# Altium integrated library Texas Instruments Power Management PWM Controller.IntLib: 1227 symbols (part 1 of 49)
Pins are listed as number, name and electrical type; pins without a type are passive.

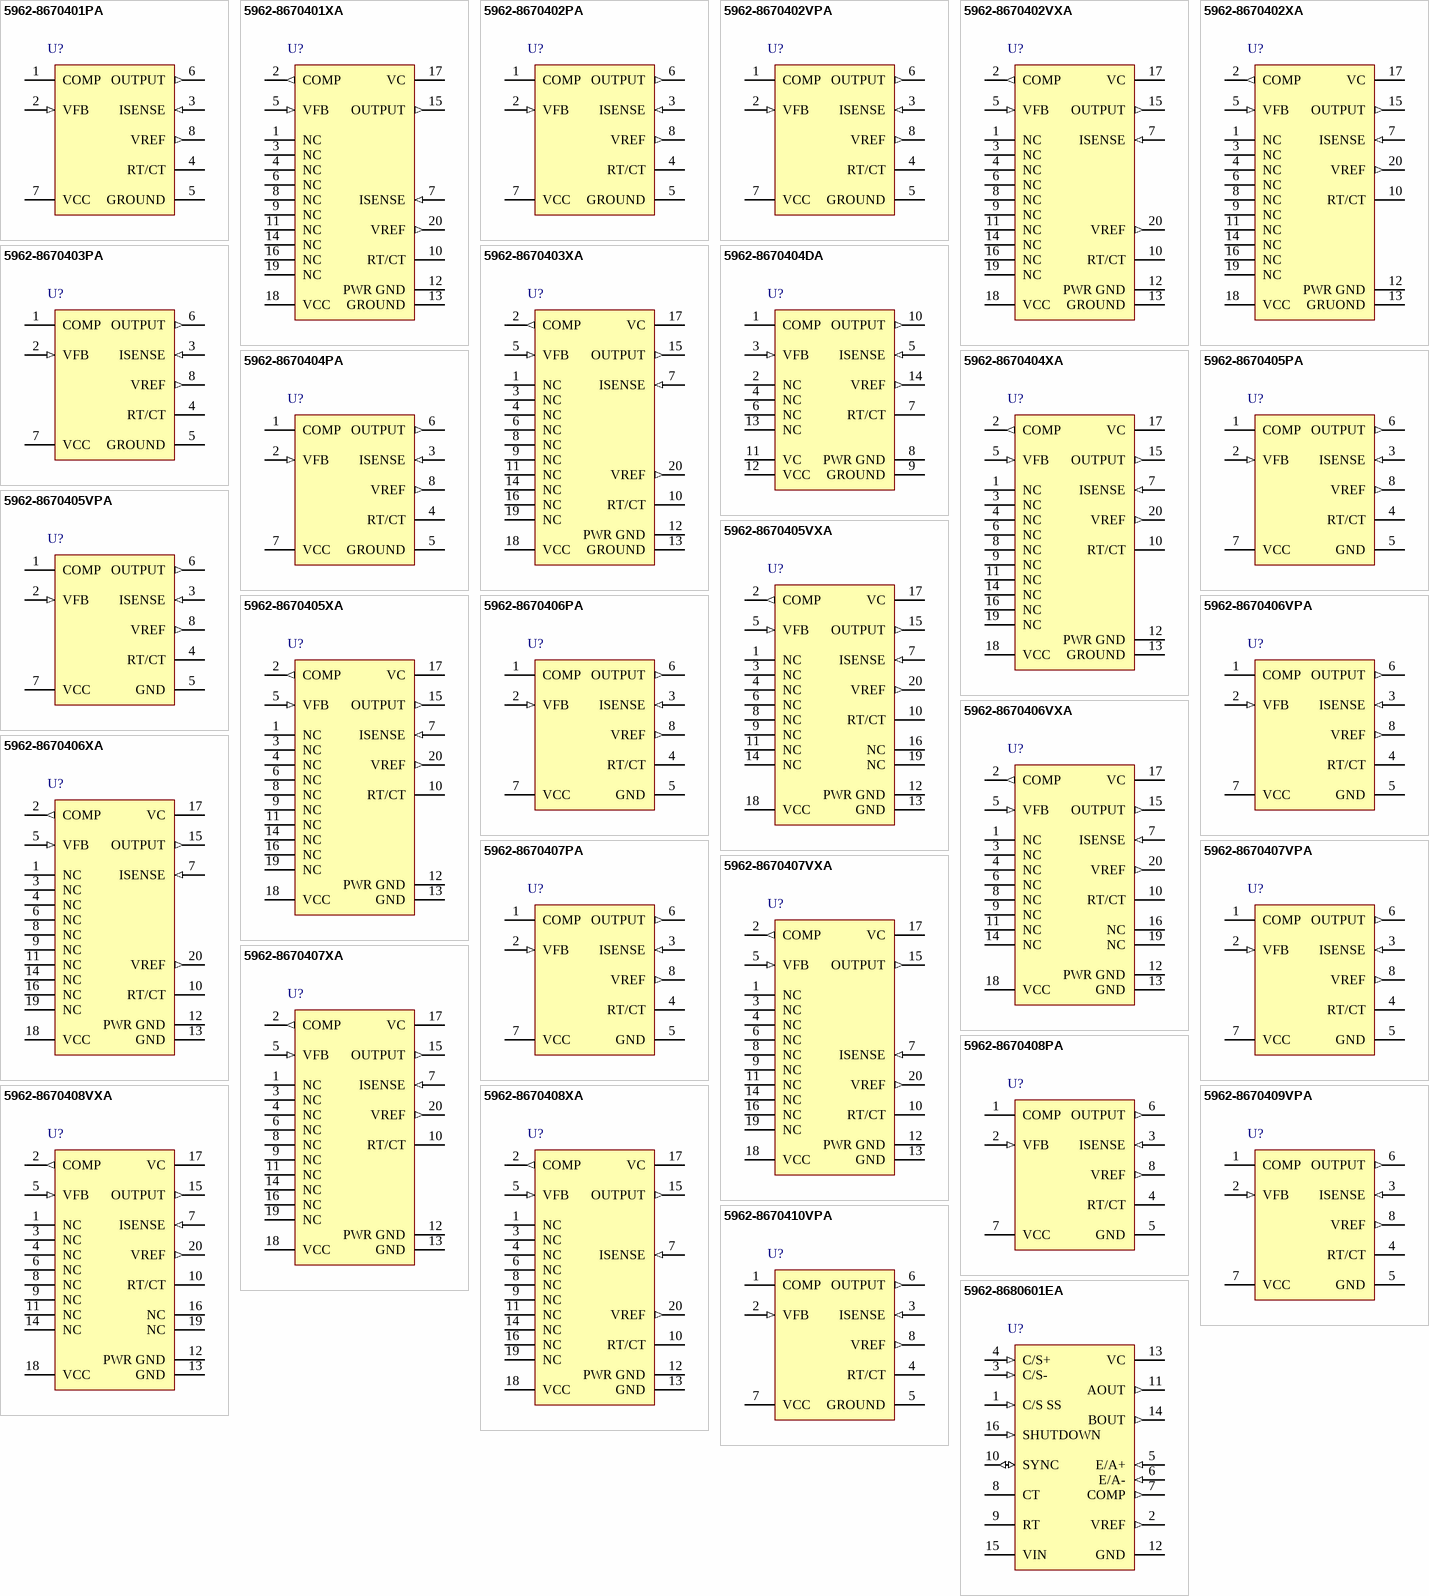
[diagram p0: symbols 5962-8670401PA to 5962-8680601EA]

## 5962-8670401PA
designator U?
Current Mode PWM Controller, 100 % Duty Cycle, -55 to +125 degC, 8-pin CDIP (JG); PartNumber: 5962-8670401PA; Manufacturer: Texas Instruments; Duty Cycle(Max)(%): 100; Eco-Plan: TBD; Frequency(Max)(kHz): 450; Rating: Military; Regulated Outputs(#): 1; Topology: Boost, Flyback, Forward; UVLO Thresholds On/Off(V): 16/10; DatasheetVersion: SLUS223C; PackageVersion: revC, Aug-1996; PackageReference: JG8; PackageDescription: 8-Pin Ceramic Dual-In-Line Package, Row Spacing 7.62 mm, Pitch 2.54 mm; Control Method: Current; SubFamily: PWM Controller; Mounting Technology: Through Hole; ComponentLink1Description: Datasheet; ComponentLink1URL: http://www.ti.com/general/docs/lit/getliterature.tsp?genericPartNumber=UC1842&fileType=pdf
footprint JG8 (DIP, 8-Leads, Row Spacing 7.62mm, Pitch 2.54mm, Body 9.6x6.7mm)
pins: 1 COMP, 2 VFB (in), 3 ISENSE (in), 4 RT/CT, 5 GROUND (power), 6 OUTPUT (out), 7 VCC (power), 8 VREF (out)

## 5962-8670401XA
designator U?
Current Mode PWM Controller, 100 % Duty Cycle, -55 to +125 degC, 20-pin LCCC (FK); PartNumber: 5962-8670401XA; Manufacturer: Texas Instruments; Duty Cycle(Max)(%): 100; Eco-Plan: TBD; Frequency(Max)(kHz): 450; Rating: Military; Regulated Outputs(#): 1; Topology: Boost, Flyback, Forward; UVLO Thresholds On/Off(V): 16/10; DatasheetVersion: SLUS223C; PackageVersion: revD, Jan-2011; PackageReference: FK20; PackageDescription: 20-Pin Leadless Ceramic Chip Carrier, 1.27 mm Pitch; Control Method: Current; SubFamily: PWM Controller; Mounting Technology: Surface Mount; Code_JEDEC: MS-004; ComponentLink1Description: Datasheet; ComponentLink1URL: http://www.ti.com/general/docs/lit/getliterature.tsp?genericPartNumber=UC1842&fileType=pdf
footprint FK20_N (Leadless Chip Carrier, 20-Leads, Body 8.9x8.9mm, Pitch 1.27mm, IPC Medium Density)
footprint FK20_L (Leadless Chip Carrier, 20-Leads, Body 8.9x8.9mm, Pitch 1.27mm, IPC High Density)
footprint FK20_M (Leadless Chip Carrier, 20-Leads, Body 8.9x8.9mm, Pitch 1.27mm, IPC Low Density)
pins: 1 NC, 2 COMP (out), 3 NC, 4 NC, 5 VFB (in), 6 NC, 7 ISENSE (in), 8 NC, 9 NC, 10 RT/CT, 11 NC, 12 PWR GND (power), 13 GROUND (power), 14 NC, 15 OUTPUT (out), 16 NC, 17 VC (power), 18 VCC (power), 19 NC, 20 VREF (out)

## 5962-8670402PA
designator U?
PWM Controller with Current Control, 100 % Duty Cycle, -55 to +125 degC, 8-pin CDIP (JG); PartNumber: 5962-8670402PA; Manufacturer: Texas Instruments; Duty Cycle(Max)(%): 100; Eco-Plan: TBD; Frequency(Max)(kHz): 450; Rating: Military; Regulated Outputs(#): 1; Topology: Boost, Flyback, Forward; UVLO Thresholds On/Off(V): 8.4/7.6; DatasheetVersion: SLUS223C; PackageVersion: revC, Aug-1996; PackageReference: JG8; PackageDescription: 8-Pin Ceramic Dual-In-Line Package, Row Spacing 7.62 mm, Pitch 2.54 mm; Control Method: Current; SubFamily: PWM Controller; Mounting Technology: Through Hole; ComponentLink1Description: Datasheet; ComponentLink1URL: http://www.ti.com/general/docs/lit/getliterature.tsp?genericPartNumber=UC1843&fileType=pdf
footprint JG8 (DIP, 8-Leads, Row Spacing 7.62mm, Pitch 2.54mm, Body 9.6x6.7mm)
pins: 1 COMP, 2 VFB (in), 3 ISENSE (in), 4 RT/CT, 5 GROUND (power), 6 OUTPUT (out), 7 VCC (power), 8 VREF (out)

## 5962-8670402VPA
designator U?
QML Class V PWM Controller with Current Mode Control, 100 % Duty Cycle, -55 to +125 degC, 8-pin CDIP (JG); PartNumber: 5962-8670402VPA; Manufacturer: Texas Instruments; Duty Cycle(Max)(%): 100; Eco-Plan: TBD; Frequency(Max)(kHz): 450; Rating: Space; Regulated Outputs(#): 1; Topology: Boost, Flyback, Forward; UVLO Thresholds On/Off(V): 8.4/7.6; DatasheetVersion: SLUS981; PackageVersion: revC, Aug-1996; PackageReference: JG8; PackageDescription: 8-Pin Ceramic Dual-In-Line Package, Row Spacing 7.62 mm, Pitch 2.54 mm; SubFamily: PWM Controller; Mounting Technology: Through Hole; ComponentLink1Description: Datasheet; ComponentLink1URL: http://www.ti.com/general/docs/lit/getliterature.tsp?genericPartNumber=UC1843-SP&fileType=pdf
footprint JG8 (DIP, 8-Leads, Row Spacing 7.62mm, Pitch 2.54mm, Body 9.6x6.7mm)
pins: 1 COMP, 2 VFB (in), 3 ISENSE (in), 4 RT/CT, 5 GROUND (power), 6 OUTPUT (out), 7 VCC (power), 8 VREF (out)

## 5962-8670402VXA
designator U?
QML Class V Current Mode PWM Controller, 100 % Duty Cycle, -55 to +125 degC, 20-pin LCCC (FK); PartNumber: 5962-8670402VXA; Manufacturer: Texas Instruments; Duty Cycle(Max)(%): 100; Eco-Plan: TBD; Frequency(Max)(kHz): 450; Rating: Space; Regulated Outputs(#): 1; Topology: Boost, Flyback, Forward; UVLO Thresholds On/Off(V): 8.4/7.6; DatasheetVersion: SLUS981; PackageVersion: revD, Jan-2011; PackageReference: FK20; PackageDescription: 20-Pin Leadless Ceramic Chip Carrier, 1.27 mm Pitch; SubFamily: PWM Controller; Mounting Technology: Surface Mount; Code_JEDEC: MS-004; ComponentLink1Description: Datasheet; ComponentLink1URL: http://www.ti.com/general/docs/lit/getliterature.tsp?genericPartNumber=UC1843-SP&fileType=pdf
footprint FK20_N (Leadless Chip Carrier, 20-Leads, Body 8.9x8.9mm, Pitch 1.27mm, IPC Medium Density)
footprint FK20_L (Leadless Chip Carrier, 20-Leads, Body 8.9x8.9mm, Pitch 1.27mm, IPC High Density)
footprint FK20_M (Leadless Chip Carrier, 20-Leads, Body 8.9x8.9mm, Pitch 1.27mm, IPC Low Density)
pins: 1 NC, 2 COMP (out), 3 NC, 4 NC, 5 VFB (in), 6 NC, 7 ISENSE (in), 8 NC, 9 NC, 10 RT/CT, 11 NC, 12 PWR GND (power), 13 GROUND (power), 14 NC, 15 OUTPUT (out), 16 NC, 17 VC (power), 18 VCC (power), 19 NC, 20 VREF (out)

## 5962-8670402XA
designator U?
PWM Controller with Current Control, 100 % Duty Cycle, -55 to +125 degC, 20-pin LCCC (FK); PartNumber: 5962-8670402XA; Manufacturer: Texas Instruments; Duty Cycle(Max)(%): 100; Eco-Plan: TBD; Frequency(Max)(kHz): 450; Rating: Military; Regulated Outputs(#): 1; Topology: Boost, Flyback, Forward; UVLO Thresholds On/Off(V): 8.4/7.6; DatasheetVersion: SLUS223C; PackageVersion: revD, Jan-2011; PackageReference: FK20; PackageDescription: 20-Pin Leadless Ceramic Chip Carrier, 1.27 mm Pitch; Control Method: Current; SubFamily: PWM Controller; Mounting Technology: Surface Mount; Code_JEDEC: MS-004; ComponentLink1Description: Datasheet; ComponentLink1URL: http://www.ti.com/general/docs/lit/getliterature.tsp?genericPartNumber=UC1843&fileType=pdf
footprint FK20_N (Leadless Chip Carrier, 20-Leads, Body 8.9x8.9mm, Pitch 1.27mm, IPC Medium Density)
footprint FK20_L (Leadless Chip Carrier, 20-Leads, Body 8.9x8.9mm, Pitch 1.27mm, IPC High Density)
footprint FK20_M (Leadless Chip Carrier, 20-Leads, Body 8.9x8.9mm, Pitch 1.27mm, IPC Low Density)
pins: 1 NC, 2 COMP (out), 3 NC, 4 NC, 5 VFB (in), 6 NC, 7 ISENSE (in), 8 NC, 9 NC, 10 RT/CT, 11 NC, 12 PWR GND (power), 13 GRUOND (power), 14 NC, 15 OUTPUT (out), 16 NC, 17 VC (power), 18 VCC (power), 19 NC, 20 VREF (out)

## 5962-8670403PA
designator U?
PWM Controller with Current Control, 50 % Duty Cycle, -55 to +125 degC, 8-pin CDIP (JG); PartNumber: 5962-8670403PA; Manufacturer: Texas Instruments; Duty Cycle(Max)(%): 50; Eco-Plan: TBD; Frequency(Max)(kHz): 450; Rating: Military; Regulated Outputs(#): 1; Topology: Boost, Flyback, Forward; UVLO Thresholds On/Off(V): 16/10; DatasheetVersion: SLUS223C; PackageVersion: revC, Aug-1996; PackageReference: JG8; PackageDescription: 8-Pin Ceramic Dual-In-Line Package, Row Spacing 7.62 mm, Pitch 2.54 mm; Control Method: Current; SubFamily: PWM Controller; Mounting Technology: Through Hole; ComponentLink1Description: Datasheet; ComponentLink1URL: http://www.ti.com/general/docs/lit/getliterature.tsp?genericPartNumber=UC1844&fileType=pdf
footprint JG8 (DIP, 8-Leads, Row Spacing 7.62mm, Pitch 2.54mm, Body 9.6x6.7mm)
pins: 1 COMP, 2 VFB (in), 3 ISENSE (in), 4 RT/CT, 5 GROUND (power), 6 OUTPUT (out), 7 VCC (power), 8 VREF (out)

## 5962-8670403XA
designator U?
PWM Controller with Current Control, 50 % Duty Cycle, -55 to +125 degC,20-pin LCCC (FK); PartNumber: 5962-8670403XA; Manufacturer: Texas Instruments; Duty Cycle(Max)(%): 50; Eco-Plan: TBD; Frequency(Max)(kHz): 450; Rating: Military; Regulated Outputs(#): 1; Topology: Boost, Flyback, Forward; UVLO Thresholds On/Off(V): 16/10; DatasheetVersion: SLUS223C; PackageVersion: revD, Jan-2011; PackageReference: FK20; PackageDescription: 20-Pin Leadless Ceramic Chip Carrier, 1.27 mm Pitch; Control Method: Current; SubFamily: PWM Controller; Mounting Technology: Surface Mount; Code_JEDEC: MS-004; ComponentLink1Description: Datasheet; ComponentLink1URL: http://www.ti.com/general/docs/lit/getliterature.tsp?genericPartNumber=UC1844&fileType=pdf
footprint FK20_N (Leadless Chip Carrier, 20-Leads, Body 8.9x8.9mm, Pitch 1.27mm, IPC Medium Density)
footprint FK20_L (Leadless Chip Carrier, 20-Leads, Body 8.9x8.9mm, Pitch 1.27mm, IPC High Density)
footprint FK20_M (Leadless Chip Carrier, 20-Leads, Body 8.9x8.9mm, Pitch 1.27mm, IPC Low Density)
pins: 1 NC, 2 COMP (out), 3 NC, 4 NC, 5 VFB (in), 6 NC, 7 ISENSE (in), 8 NC, 9 NC, 10 RT/CT, 11 NC, 12 PWR GND (power), 13 GROUND (power), 14 NC, 15 OUTPUT (out), 16 NC, 17 VC (power), 18 VCC (power), 19 NC, 20 VREF (out)

## 5962-8670404DA
designator U?
PWM Controller with Current Control, 50 % Duty Cycle, 14-pin CFP (W); PartNumber: 5962-8670404DA; Manufacturer: Texas Instruments; Duty Cycle(Max)(%): 50; Eco-Plan: TBD; Frequency(Max)(kHz): 450; Rating: Military; Regulated Outputs(#): 1; Topology: Boost, Flyback, Forward; UVLO Thresholds On/Off(V): 8.4/7.6; DatasheetVersion: SLUS223C; PackageVersion: revD, Jul-2003; PackageReference: W14; PackageDescription: 14-Lead Ceramic Dual Flatpack, Body 9.9 x 6.6 mm (LxW max), Pitch 1.27 mm; Control Method: Current; SubFamily: PWM Controller; Mounting Technology: Surface Mount; Code_JEDEC: MO-092AB; ComponentLink1Description: Datasheet; ComponentLink1URL: http://www.ti.com/general/docs/lit/getliterature.tsp?genericPartNumber=UC1845&fileType=pdf
footprint W14 (DFP, 14 Leads, Body 9.2x6.3mm, Pitch 1.27mm, Gullwing Leadform)
pins: 1 COMP, 2 NC, 3 VFB (in), 4 NC, 5 ISENSE (in), 6 NC, 7 RT/CT, 8 PWR GND (power), 9 GROUND (power), 10 OUTPUT (out), 11 VC (power), 12 VCC (power), 13 NC, 14 VREF (out)

## 5962-8670404PA
designator U?
PWM Controller with Current Control, 50 % Duty Cycle, -55 to +125 degC, 8-pin CDIP (JG); PartNumber: 5962-8670404PA; Manufacturer: Texas Instruments; Duty Cycle(Max)(%): 50; Eco-Plan: TBD; Frequency(Max)(kHz): 450; Rating: Military; Regulated Outputs(#): 1; Topology: Boost, Flyback, Forward; UVLO Thresholds On/Off(V): 8.4/7.6; DatasheetVersion: SLUS223C; PackageVersion: revC, Aug-1996; PackageReference: JG8; PackageDescription: 8-Pin Ceramic Dual-In-Line Package, Row Spacing 7.62 mm, Pitch 2.54 mm; Control Method: Current; SubFamily: PWM Controller; Mounting Technology: Through Hole; ComponentLink1Description: Datasheet; ComponentLink1URL: http://www.ti.com/general/docs/lit/getliterature.tsp?genericPartNumber=UC1845&fileType=pdf
footprint JG8 (DIP, 8-Leads, Row Spacing 7.62mm, Pitch 2.54mm, Body 9.6x6.7mm)
pins: 1 COMP, 2 VFB (in), 3 ISENSE (in), 4 RT/CT, 5 GROUND (power), 6 OUTPUT (out), 7 VCC (power), 8 VREF (out)

## 5962-8670404XA
designator U?
PWM Controller with Current Control, 50 % Duty Cycle, -55 to +125 degC, 20-pin LCCC (FK); PartNumber: 5962-8670404XA; Manufacturer: Texas Instruments; Duty Cycle(Max)(%): 50; Eco-Plan: TBD; Frequency(Max)(kHz): 450; Rating: Military; Regulated Outputs(#): 1; Topology: Boost, Flyback, Forward; UVLO Thresholds On/Off(V): 8.4/7.6; DatasheetVersion: SLUS223C; PackageVersion: revD, Jan-2011; PackageReference: FK20; PackageDescription: 20-Pin Leadless Ceramic Chip Carrier, 1.27 mm Pitch; Control Method: Current; SubFamily: PWM Controller; Mounting Technology: Surface Mount; Code_JEDEC: MS-004; ComponentLink1Description: Datasheet; ComponentLink1URL: http://www.ti.com/general/docs/lit/getliterature.tsp?genericPartNumber=UC1845&fileType=pdf
footprint FK20_N (Leadless Chip Carrier, 20-Leads, Body 8.9x8.9mm, Pitch 1.27mm, IPC Medium Density)
footprint FK20_L (Leadless Chip Carrier, 20-Leads, Body 8.9x8.9mm, Pitch 1.27mm, IPC High Density)
footprint FK20_M (Leadless Chip Carrier, 20-Leads, Body 8.9x8.9mm, Pitch 1.27mm, IPC Low Density)
pins: 1 NC, 2 COMP (out), 3 NC, 4 NC, 5 VFB (in), 6 NC, 7 ISENSE (in), 8 NC, 9 NC, 10 RT/CT, 11 NC, 12 PWR GND (power), 13 GROUND (power), 14 NC, 15 OUTPUT (out), 16 NC, 17 VC (power), 18 VCC (power), 19 NC, 20 VREF (out)

## 5962-8670405PA
designator U?
PWM Controller with Current Control, 100 % Duty Cycle, -55 to +125 degC, 8-pin CDIP (JG); PartNumber: 5962-8670405PA; Manufacturer: Texas Instruments; Duty Cycle(Max)(%): 100; Eco-Plan: TBD; Frequency(Max)(kHz): 450; Rating: Military; Regulated Outputs(#): 1; Topology: Boost, Flyback, Forward; UVLO Thresholds On/Off(V): 16/10; DatasheetVersion: SLUS224C; PackageVersion: revC, Aug-1996; PackageReference: JG8; PackageDescription: 8-Pin Ceramic Dual-In-Line Package, Row Spacing 7.62 mm, Pitch 2.54 mm; Control Method: Current; SubFamily: PWM Controller; Mounting Technology: Through Hole; ComponentLink1Description: Datasheet; ComponentLink1URL: http://www.ti.com/general/docs/lit/getliterature.tsp?genericPartNumber=UC1842A&fileType=pdf
footprint JG8 (DIP, 8-Leads, Row Spacing 7.62mm, Pitch 2.54mm, Body 9.6x6.7mm)
pins: 1 COMP, 2 VFB (in), 3 ISENSE (in), 4 RT/CT, 5 GND (power), 6 OUTPUT (out), 7 VCC (power), 8 VREF (out)

## 5962-8670405VPA
designator U?
QML Class V, Current Mode PWM Controller, -55 to +125 degC, 8-pin CDIP (JG); PartNumber: 5962-8670405VPA; Manufacturer: Texas Instruments; Eco-Plan: TBD; Rating: Space; DatasheetVersion: SLUS872A; PackageVersion: revC, Aug-1996; PackageReference: JG8; PackageDescription: 8-Pin Ceramic Dual-In-Line Package, Row Spacing 7.62 mm, Pitch 2.54 mm; SubFamily: PWM Controller; Mounting Technology: Through Hole; ComponentLink1Description: Datasheet; ComponentLink1URL: http://www.ti.com/general/docs/lit/getliterature.tsp?genericPartNumber=UC1842A-SP&fileType=pdf
footprint JG8 (DIP, 8-Leads, Row Spacing 7.62mm, Pitch 2.54mm, Body 9.6x6.7mm)
pins: 1 COMP, 2 VFB (in), 3 ISENSE (in), 4 RT/CT, 5 GND (power), 6 OUTPUT (out), 7 VCC (power), 8 VREF (out)

## 5962-8670405VXA
designator U?
QML Class V, Current Mode PWM Controller, -55 to +125 degC,20-pin LCCC (FK); PartNumber: 5962-8670405VXA; Manufacturer: Texas Instruments; Eco-Plan: TBD; Rating: Space; DatasheetVersion: SLUS872A; PackageVersion: revD, Jan-2011; PackageReference: FK20; PackageDescription: 20-Pin Leadless Ceramic Chip Carrier, 1.27 mm Pitch; Control Method: Current; SubFamily: PWM Controller; Mounting Technology: Surface Mount; Code_JEDEC: MS-004; ComponentLink1Description: Datasheet; ComponentLink1URL: http://www.ti.com/general/docs/lit/getliterature.tsp?genericPartNumber=UC1842A-SP&fileType=pdf
footprint FK20_N (Leadless Chip Carrier, 20-Leads, Body 8.9x8.9mm, Pitch 1.27mm, IPC Medium Density)
footprint FK20_L (Leadless Chip Carrier, 20-Leads, Body 8.9x8.9mm, Pitch 1.27mm, IPC High Density)
footprint FK20_M (Leadless Chip Carrier, 20-Leads, Body 8.9x8.9mm, Pitch 1.27mm, IPC Low Density)
pins: 1 NC, 2 COMP (out), 3 NC, 4 NC, 5 VFB (in), 6 NC, 7 ISENSE (in), 8 NC, 9 NC, 10 RT/CT, 11 NC, 12 PWR GND (power), 13 GND (power), 14 NC, 15 OUTPUT (out), 16 NC, 17 VC (power), 18 VCC (power), 19 NC, 20 VREF (out)

## 5962-8670405XA
designator U?
PWM Controller with Current Control, 100 % Duty Cycle, -55 to +125 degC, 20-pin LCCC (FK); PartNumber: 5962-8670405XA; Manufacturer: Texas Instruments; Duty Cycle(Max)(%): 100; Eco-Plan: TBD; Frequency(Max)(kHz): 450; Rating: Military; Regulated Outputs(#): 1; Topology: Boost, Flyback, Forward; UVLO Thresholds On/Off(V): 16/10; DatasheetVersion: SLUS224C; PackageVersion: revD, Jan-2011; PackageReference: FK20; PackageDescription: 20-Pin Leadless Ceramic Chip Carrier, 1.27 mm Pitch; Control Method: Current; SubFamily: PWM Controller; Mounting Technology: Surface Mount; Code_JEDEC: MS-004; ComponentLink1Description: Datasheet; ComponentLink1URL: http://www.ti.com/general/docs/lit/getliterature.tsp?genericPartNumber=UC1842A&fileType=pdf
footprint FK20_N (Leadless Chip Carrier, 20-Leads, Body 8.9x8.9mm, Pitch 1.27mm, IPC Medium Density)
footprint FK20_L (Leadless Chip Carrier, 20-Leads, Body 8.9x8.9mm, Pitch 1.27mm, IPC High Density)
footprint FK20_M (Leadless Chip Carrier, 20-Leads, Body 8.9x8.9mm, Pitch 1.27mm, IPC Low Density)
pins: 1 NC, 2 COMP (out), 3 NC, 4 NC, 5 VFB (in), 6 NC, 7 ISENSE (in), 8 NC, 9 NC, 10 RT/CT, 11 NC, 12 PWR GND (power), 13 GND (power), 14 NC, 15 OUTPUT (out), 16 NC, 17 VC (power), 18 VCC (power), 19 NC, 20 VREF (out)

## 5962-8670406PA
designator U?
PWM Controller with Current Control, 100 % Duty Cycle, -55 to +125 degC, 8-pin CDIP (JG); PartNumber: 5962-8670406PA; Manufacturer: Texas Instruments; Duty Cycle(Max)(%): 100; Eco-Plan: TBD; Frequency(Max)(kHz): 450; Rating: Military; Regulated Outputs(#): 1; Topology: Boost, Flyback, Forward; UVLO Thresholds On/Off(V): 8.4/7.6; DatasheetVersion: SLUS224C; PackageVersion: revC, Aug-1996; PackageReference: JG8; PackageDescription: 8-Pin Ceramic Dual-In-Line Package, Row Spacing 7.62 mm, Pitch 2.54 mm; Control Method: Current; SubFamily: PWM Controller; Mounting Technology: Through Hole; ComponentLink1Description: Datasheet; ComponentLink1URL: http://www.ti.com/general/docs/lit/getliterature.tsp?genericPartNumber=UC1843A&fileType=pdf
footprint JG8 (DIP, 8-Leads, Row Spacing 7.62mm, Pitch 2.54mm, Body 9.6x6.7mm)
pins: 1 COMP, 2 VFB (in), 3 ISENSE (in), 4 RT/CT, 5 GND (power), 6 OUTPUT (out), 7 VCC (power), 8 VREF (out)

## 5962-8670406VPA
designator U?
QML Class V, PWM Controller with Current Control, 100 % Duty Cycle, -55 to +125 degC, 8-pin CDIP (JG); PartNumber: 5962-8670406VPA; Manufacturer: Texas Instruments; Duty Cycle(Max)(%): 100; Eco-Plan: TBD; Frequency(Max)(kHz): 450; Rating: Space; Regulated Outputs(#): 1; Topology: Boost, Flyback, Forward; UVLO Thresholds On/Off(V): 8.4/7.6; DatasheetVersion: SLUS872A; PackageVersion: revC, Aug-1996; PackageReference: JG8; PackageDescription: 8-Pin Ceramic Dual-In-Line Package, Row Spacing 7.62 mm, Pitch 2.54 mm; Control Method: Current; SubFamily: PWM Controller; Mounting Technology: Through Hole; ComponentLink1Description: Datasheet; ComponentLink1URL: http://www.ti.com/general/docs/lit/getliterature.tsp?genericPartNumber=UC1843A-SP&fileType=pdf
footprint JG8 (DIP, 8-Leads, Row Spacing 7.62mm, Pitch 2.54mm, Body 9.6x6.7mm)
pins: 1 COMP, 2 VFB (in), 3 ISENSE (in), 4 RT/CT, 5 GND (power), 6 OUTPUT (out), 7 VCC (power), 8 VREF (out)

## 5962-8670406VXA
designator U?
QML Class V, PWM Controller with Current Control, 100 % Duty Cycle, -55 to +125 degC, 20-pin LCCC (FK); PartNumber: 5962-8670406VXA; Manufacturer: Texas Instruments; Duty Cycle(Max)(%): 100; Eco-Plan: TBD; Frequency(Max)(kHz): 450; Rating: Space; Regulated Outputs(#): 1; Topology: Boost, Flyback, Forward; UVLO Thresholds On/Off(V): 8.4/7.6; DatasheetVersion: SLUS872A; PackageVersion: revD, Jan-2011; PackageReference: FK20; PackageDescription: 20-Pin Leadless Ceramic Chip Carrier, 1.27 mm Pitch; Control Method: Current; SubFamily: PWM Controller; Mounting Technology: Surface Mount; Code_JEDEC: MS-004; ComponentLink1Description: Datasheet; ComponentLink1URL: http://www.ti.com/general/docs/lit/getliterature.tsp?genericPartNumber=UC1843A-SP&fileType=pdf
footprint FK20_N (Leadless Chip Carrier, 20-Leads, Body 8.9x8.9mm, Pitch 1.27mm, IPC Medium Density)
footprint FK20_L (Leadless Chip Carrier, 20-Leads, Body 8.9x8.9mm, Pitch 1.27mm, IPC High Density)
footprint FK20_M (Leadless Chip Carrier, 20-Leads, Body 8.9x8.9mm, Pitch 1.27mm, IPC Low Density)
pins: 1 NC, 2 COMP (out), 3 NC, 4 NC, 5 VFB (in), 6 NC, 7 ISENSE (in), 8 NC, 9 NC, 10 RT/CT, 11 NC, 12 PWR GND (power), 13 GND (power), 14 NC, 15 OUTPUT (out), 16 NC, 17 VC (power), 18 VCC (power), 19 NC, 20 VREF (out)

## 5962-8670406XA
designator U?
PWM Controller with Current Control, 100 % Duty Cycle, -55 to +125 degC, 20-pin LCCC (FK); PartNumber: 5962-8670406XA; Manufacturer: Texas Instruments; Duty Cycle(Max)(%): 100; Eco-Plan: TBD; Frequency(Max)(kHz): 450; Rating: Military; Regulated Outputs(#): 1; Topology: Boost, Flyback, Forward; UVLO Thresholds On/Off(V): 8.4/7.6; DatasheetVersion: SLUS224C; PackageVersion: revD, Jan-2011; PackageReference: FK20; PackageDescription: 20-Pin Leadless Ceramic Chip Carrier, 1.27 mm Pitch; Control Method: Current; SubFamily: PWM Controller; Mounting Technology: Surface Mount; Code_JEDEC: MS-004; ComponentLink1Description: Datasheet; ComponentLink1URL: http://www.ti.com/general/docs/lit/getliterature.tsp?genericPartNumber=UC1843A&fileType=pdf
footprint FK20_N (Leadless Chip Carrier, 20-Leads, Body 8.9x8.9mm, Pitch 1.27mm, IPC Medium Density)
footprint FK20_L (Leadless Chip Carrier, 20-Leads, Body 8.9x8.9mm, Pitch 1.27mm, IPC High Density)
footprint FK20_M (Leadless Chip Carrier, 20-Leads, Body 8.9x8.9mm, Pitch 1.27mm, IPC Low Density)
pins: 1 NC, 2 COMP (out), 3 NC, 4 NC, 5 VFB (in), 6 NC, 7 ISENSE (in), 8 NC, 9 NC, 10 RT/CT, 11 NC, 12 PWR GND (power), 13 GND (power), 14 NC, 15 OUTPUT (out), 16 NC, 17 VC (power), 18 VCC (power), 19 NC, 20 VREF (out)

## 5962-8670407PA
designator U?
PWM Controller with Current Control, 50 % Duty Cycle, -55 to +125 degC, 8-pin CDIP (JG); PartNumber: 5962-8670407PA; Manufacturer: Texas Instruments; Duty Cycle(Max)(%): 50; Eco-Plan: TBD; Frequency(Max)(kHz): 450; Rating: Military; Regulated Outputs(#): 1; Topology: Boost, Flyback, Forward; UVLO Thresholds On/Off(V): 16/10; DatasheetVersion: SLUS224C; PackageVersion: revC, Aug-1996; PackageReference: JG8; PackageDescription: 8-Pin Ceramic Dual-In-Line Package, Row Spacing 7.62 mm, Pitch 2.54 mm; Control Method: Current; SubFamily: PWM Controller; Mounting Technology: Through Hole; ComponentLink1Description: Datasheet; ComponentLink1URL: http://www.ti.com/general/docs/lit/getliterature.tsp?genericPartNumber=UC1844A&fileType=pdf
footprint JG8 (DIP, 8-Leads, Row Spacing 7.62mm, Pitch 2.54mm, Body 9.6x6.7mm)
pins: 1 COMP, 2 VFB (in), 3 ISENSE (in), 4 RT/CT, 5 GND (power), 6 OUTPUT (out), 7 VCC (power), 8 VREF (out)

## 5962-8670407VPA
designator U?
QML Class V, Current-Mode PWM Controller, -55 to +125 degC, 8-pin CDIP (JG); PartNumber: 5962-8670407VPA; Manufacturer: Texas Instruments; Eco-Plan: TBD; Rating: Space; DatasheetVersion: SLUS872A; PackageVersion: revC, Aug-1996; PackageReference: JG8; PackageDescription: 8-Pin Ceramic Dual-In-Line Package, Row Spacing 7.62 mm, Pitch 2.54 mm; Control Method: Current; SubFamily: PWM Controller; Mounting Technology: Through Hole; ComponentLink1Description: Datasheet; ComponentLink1URL: http://www.ti.com/general/docs/lit/getliterature.tsp?genericPartNumber=UC1844A-SP&fileType=pdf
footprint JG8 (DIP, 8-Leads, Row Spacing 7.62mm, Pitch 2.54mm, Body 9.6x6.7mm)
pins: 1 COMP, 2 VFB (in), 3 ISENSE (in), 4 RT/CT, 5 GND (power), 6 OUTPUT (out), 7 VCC (power), 8 VREF (out)

## 5962-8670407VXA
designator U?
QML Class V, Current-Mode PWM Controller, -55 to +125 degC, 20-pin LCCC (FK); PartNumber: 5962-8670407VXA; Manufacturer: Texas Instruments; Eco-Plan: TBD; Rating: Space; DatasheetVersion: SLUS872A; PackageVersion: revD, Jan-2011; PackageReference: FK20; PackageDescription: 20-Pin Leadless Ceramic Chip Carrier, 1.27 mm Pitch; Control Method: Current; SubFamily: PWM Controller; Mounting Technology: Surface Mount; Code_JEDEC: MS-004; ComponentLink1Description: Datasheet; ComponentLink1URL: http://www.ti.com/general/docs/lit/getliterature.tsp?genericPartNumber=UC1844A-SP&fileType=pdf
footprint FK20_N (Leadless Chip Carrier, 20-Leads, Body 8.9x8.9mm, Pitch 1.27mm, IPC Medium Density)
footprint FK20_L (Leadless Chip Carrier, 20-Leads, Body 8.9x8.9mm, Pitch 1.27mm, IPC High Density)
footprint FK20_M (Leadless Chip Carrier, 20-Leads, Body 8.9x8.9mm, Pitch 1.27mm, IPC Low Density)
pins: 1 NC, 2 COMP (out), 3 NC, 4 NC, 5 VFB (in), 6 NC, 7 ISENSE (in), 8 NC, 9 NC, 10 RT/CT, 11 NC, 12 PWR GND (power), 13 GND (power), 14 NC, 15 OUTPUT (out), 16 NC, 17 VC (power), 18 VCC (power), 19 NC, 20 VREF (out)

## 5962-8670407XA
designator U?
PWM Controller with Current Control, 50 % Duty Cycle, -55 to +125 degC, 20-pin LCCC (FK); PartNumber: 5962-8670407XA; Manufacturer: Texas Instruments; Duty Cycle(Max)(%): 50; Eco-Plan: TBD; Frequency(Max)(kHz): 450; Rating: Military; Regulated Outputs(#): 1; Topology: Boost, Flyback, Forward; UVLO Thresholds On/Off(V): 16/10; DatasheetVersion: SLUS224C; PackageVersion: revD, Jan-2011; PackageReference: FK20; PackageDescription: 20-Pin Leadless Ceramic Chip Carrier, 1.27 mm Pitch; Control Method: Current; SubFamily: PWM Controller; Mounting Technology: Surface Mount; Code_JEDEC: MS-004; ComponentLink1Description: Datasheet; ComponentLink1URL: http://www.ti.com/general/docs/lit/getliterature.tsp?genericPartNumber=UC1844A&fileType=pdf
footprint FK20_N (Leadless Chip Carrier, 20-Leads, Body 8.9x8.9mm, Pitch 1.27mm, IPC Medium Density)
footprint FK20_L (Leadless Chip Carrier, 20-Leads, Body 8.9x8.9mm, Pitch 1.27mm, IPC High Density)
footprint FK20_M (Leadless Chip Carrier, 20-Leads, Body 8.9x8.9mm, Pitch 1.27mm, IPC Low Density)
pins: 1 NC, 2 COMP (out), 3 NC, 4 NC, 5 VFB (in), 6 NC, 7 ISENSE (in), 8 NC, 9 NC, 10 RT/CT, 11 NC, 12 PWR GND (power), 13 GND (power), 14 NC, 15 OUTPUT (out), 16 NC, 17 VC (power), 18 VCC (power), 19 NC, 20 VREF (out)

## 5962-8670408PA
designator U?
PWM Controller with Current Control, 50 % Duty Cycle, -55 to +125 degC, 8-pin CDIP (JG); PartNumber: 5962-8670408PA; Manufacturer: Texas Instruments; Duty Cycle(Max)(%): 50; Eco-Plan: TBD; Frequency(Max)(kHz): 450; Rating: Military; Regulated Outputs(#): 1; Topology: Boost, Flyback, Forward; UVLO Thresholds On/Off(V): 8.4/7.6; PackageVersion: revC, Aug-1996; PackageReference: JG8; PackageDescription: 8-Pin Ceramic Dual-In-Line Package, Row Spacing 7.62 mm, Pitch 2.54 mm; Control Method: Current; SubFamily: PWM Controller; Mounting Technology: Through Hole; ComponentLink1Description: Datasheet; ComponentLink1URL: http://www.ti.com/general/docs/lit/getliterature.tsp?genericPartNumber=UC1845A&fileType=pdf
footprint JG8 (DIP, 8-Leads, Row Spacing 7.62mm, Pitch 2.54mm, Body 9.6x6.7mm)
pins: 1 COMP, 2 VFB (in), 3 ISENSE (in), 4 RT/CT, 5 GND (power), 6 OUTPUT (out), 7 VCC (power), 8 VREF (out)

## 5962-8670408VXA
designator U?
QML Class V, Current-Mode PWM Controller, -55 to +125 degC, 20-pin LCCC (FK); PartNumber: 5962-8670408VXA; Manufacturer: Texas Instruments; Eco-Plan: TBD; Rating: Space; DatasheetVersion: SLUS872A; PackageVersion: revD, Jan-2011; PackageReference: FK20; PackageDescription: 20-Pin Leadless Ceramic Chip Carrier, 1.27 mm Pitch; SubFamily: PWM Controller; Mounting Technology: Surface Mount; Code_JEDEC: MS-004; ComponentLink1Description: Datasheet; ComponentLink1URL: http://www.ti.com/general/docs/lit/getliterature.tsp?genericPartNumber=UC1845A-SP&fileType=pdf
footprint FK20_N (Leadless Chip Carrier, 20-Leads, Body 8.9x8.9mm, Pitch 1.27mm, IPC Medium Density)
footprint FK20_L (Leadless Chip Carrier, 20-Leads, Body 8.9x8.9mm, Pitch 1.27mm, IPC High Density)
footprint FK20_M (Leadless Chip Carrier, 20-Leads, Body 8.9x8.9mm, Pitch 1.27mm, IPC Low Density)
pins: 1 NC, 2 COMP (out), 3 NC, 4 NC, 5 VFB (in), 6 NC, 7 ISENSE (in), 8 NC, 9 NC, 10 RT/CT, 11 NC, 12 PWR GND (power), 13 GND (power), 14 NC, 15 OUTPUT (out), 16 NC, 17 VC (power), 18 VCC (power), 19 NC, 20 VREF (out)

## 5962-8670408XA
designator U?
PWM Controller with Current Control, 50 % Duty Cycle, -55 to +125 degC, 20-pin LCCC (FK); PartNumber: 5962-8670408XA; Manufacturer: Texas Instruments; Duty Cycle(Max)(%): 50; Eco-Plan: TBD; Frequency(Max)(kHz): 450; Rating: Military; Regulated Outputs(#): 1; Topology: Boost, Flyback, Forward; UVLO Thresholds On/Off(V): 8.4/7.6; PackageVersion: revD, Jan-2011; PackageReference: FK20; PackageDescription: 20-Pin Leadless Ceramic Chip Carrier, 1.27 mm Pitch; Control Method: Current; SubFamily: PWM Controller; Mounting Technology: Surface Mount; Code_JEDEC: MS-004; ComponentLink1Description: Datasheet; ComponentLink1URL: http://www.ti.com/general/docs/lit/getliterature.tsp?genericPartNumber=UC1845A&fileType=pdf
footprint FK20_N (Leadless Chip Carrier, 20-Leads, Body 8.9x8.9mm, Pitch 1.27mm, IPC Medium Density)
footprint FK20_L (Leadless Chip Carrier, 20-Leads, Body 8.9x8.9mm, Pitch 1.27mm, IPC High Density)
footprint FK20_M (Leadless Chip Carrier, 20-Leads, Body 8.9x8.9mm, Pitch 1.27mm, IPC Low Density)
pins: 1 NC, 2 COMP (out), 3 NC, 4 NC, 5 VFB (in), 6 NC, 7 ISENSE (in), 8 NC, 9 NC, 10 RT/CT, 11 NC, 12 PWR GND (power), 13 GND (power), 14 NC, 15 OUTPUT (out), 16 NC, 17 VC (power), 18 VCC (power), 19 NC, 20 VREF (out)

## 5962-8670409VPA
designator U?
QML Class V, Current Mode PWM Controller with Current Control, 100 % Duty Cycle, -55 to +125 degC, 8-pin CDIP (JG); PartNumber: 5962-8670409VPA; Manufacturer: Texas Instruments; Duty Cycle(Max)(%): 100; Eco-Plan: TBD; Frequency(Max)(kHz): 450; Rating: Space; Regulated Outputs(#): 1; Topology: Boost, Flyback, Forward; UVLO Thresholds On/Off(V): 8.4/7.6; DatasheetVersion: SLUS872A; PackageVersion: revC, Aug-1996; PackageReference: JG8; PackageDescription: 8-Pin Ceramic Dual-In-Line Package, Row Spacing 7.62 mm, Pitch 2.54 mm; Supplier 1: Mouser; Supplier Part Number 1: 595-5962-8670409VPA; Control Method: Current; SubFamily: PWM Controller; Mounting Technology: Through Hole; ComponentLink1Description: Datasheet; ComponentLink1URL: http://www.ti.com/general/docs/lit/getliterature.tsp?genericPartNumber=UC1843A-SP&fileType=pdf
footprint JG8 (DIP, 8-Leads, Row Spacing 7.62mm, Pitch 2.54mm, Body 9.6x6.7mm)
pins: 1 COMP, 2 VFB (in), 3 ISENSE (in), 4 RT/CT, 5 GND (power), 6 OUTPUT (out), 7 VCC (power), 8 VREF (out)

## 5962-8670410VPA
designator U?
QML Class V Current Mode PWM Controller, 100 % Duty Cycle, -55 to +125 degC, 8-pin CDIP (JG); PartNumber: 5962-8670410VPA; Manufacturer: Texas Instruments; Duty Cycle(Max)(%): 100; Eco-Plan: TBD; Frequency(Max)(kHz): 450; Rating: Space; Regulated Outputs(#): 1; Topology: Boost, Flyback, Forward; UVLO Thresholds On/Off(V): 8.4/7.6; DatasheetVersion: SLUS981; PackageVersion: revC, Aug-1996; PackageReference: JG8; PackageDescription: 8-Pin Ceramic Dual-In-Line Package, Row Spacing 7.62 mm, Pitch 2.54 mm; Supplier 1: Mouser; Supplier Part Number 1: 595-5962-8670410VPA; Control Method: Current; SubFamily: PWM Controller; Mounting Technology: Through Hole; ComponentLink1Description: Datasheet; ComponentLink1URL: http://www.ti.com/general/docs/lit/getliterature.tsp?genericPartNumber=UC1843-SP&fileType=pdf
footprint JG8 (DIP, 8-Leads, Row Spacing 7.62mm, Pitch 2.54mm, Body 9.6x6.7mm)
pins: 1 COMP, 2 VFB (in), 3 ISENSE (in), 4 RT/CT, 5 GROUND (power), 6 OUTPUT (out), 7 VCC (power), 8 VREF (out)

## 5962-8680601EA
designator U?
PWM Controller with Current Control, 50 % Duty Cycle, -55 to 125 degC, 16-pin CDIP (J); PartNumber: 5962-8680601EA; Manufacturer: Texas Instruments; Duty Cycle(Max)(%): 50; Eco-Plan: TBD; Frequency(Max)(kHz): 450; Rating: Military; Regulated Outputs(#): 2; Topology: Boost, Flyback, Forward, Full-Bridge, Half-Bridge, Push-Pull; UVLO Thresholds On/Off(V): 7.7/6.95; DatasheetVersion: SLUS352B; PackageVersion: revF, Mar-2003; PackageReference: J16; PackageDescription: 16-Pin, Ceramic Dual In-Line Package, Row Spacing 7.62 mm, Pitch 2.54 mm; Control Method: Current; SubFamily: PWM Controller; Mounting Technology: Through Hole; ComponentLink1Description: Datasheet; ComponentLink1URL: http://www.ti.com/general/docs/lit/getliterature.tsp?genericPartNumber=UC1846&fileType=pdf
footprint J16 (DIP, 16-Leads, Row Spacing 7.62mm, Pitch 2.54mm, Body 21.3x6.9mm)
pins: 1 C/S SS (in), 2 VREF (out), 3 C/S- (in), 4 C/S+ (in), 5 E/A+ (in), 6 E/A- (in), 7 COMP (out), 8 CT, 9 RT, 10 SYNC (io), 11 AOUT (out), 12 GND (power), 13 VC (power), 14 BOUT (out), 15 VIN (power), 16 SHUTDOWN (in)

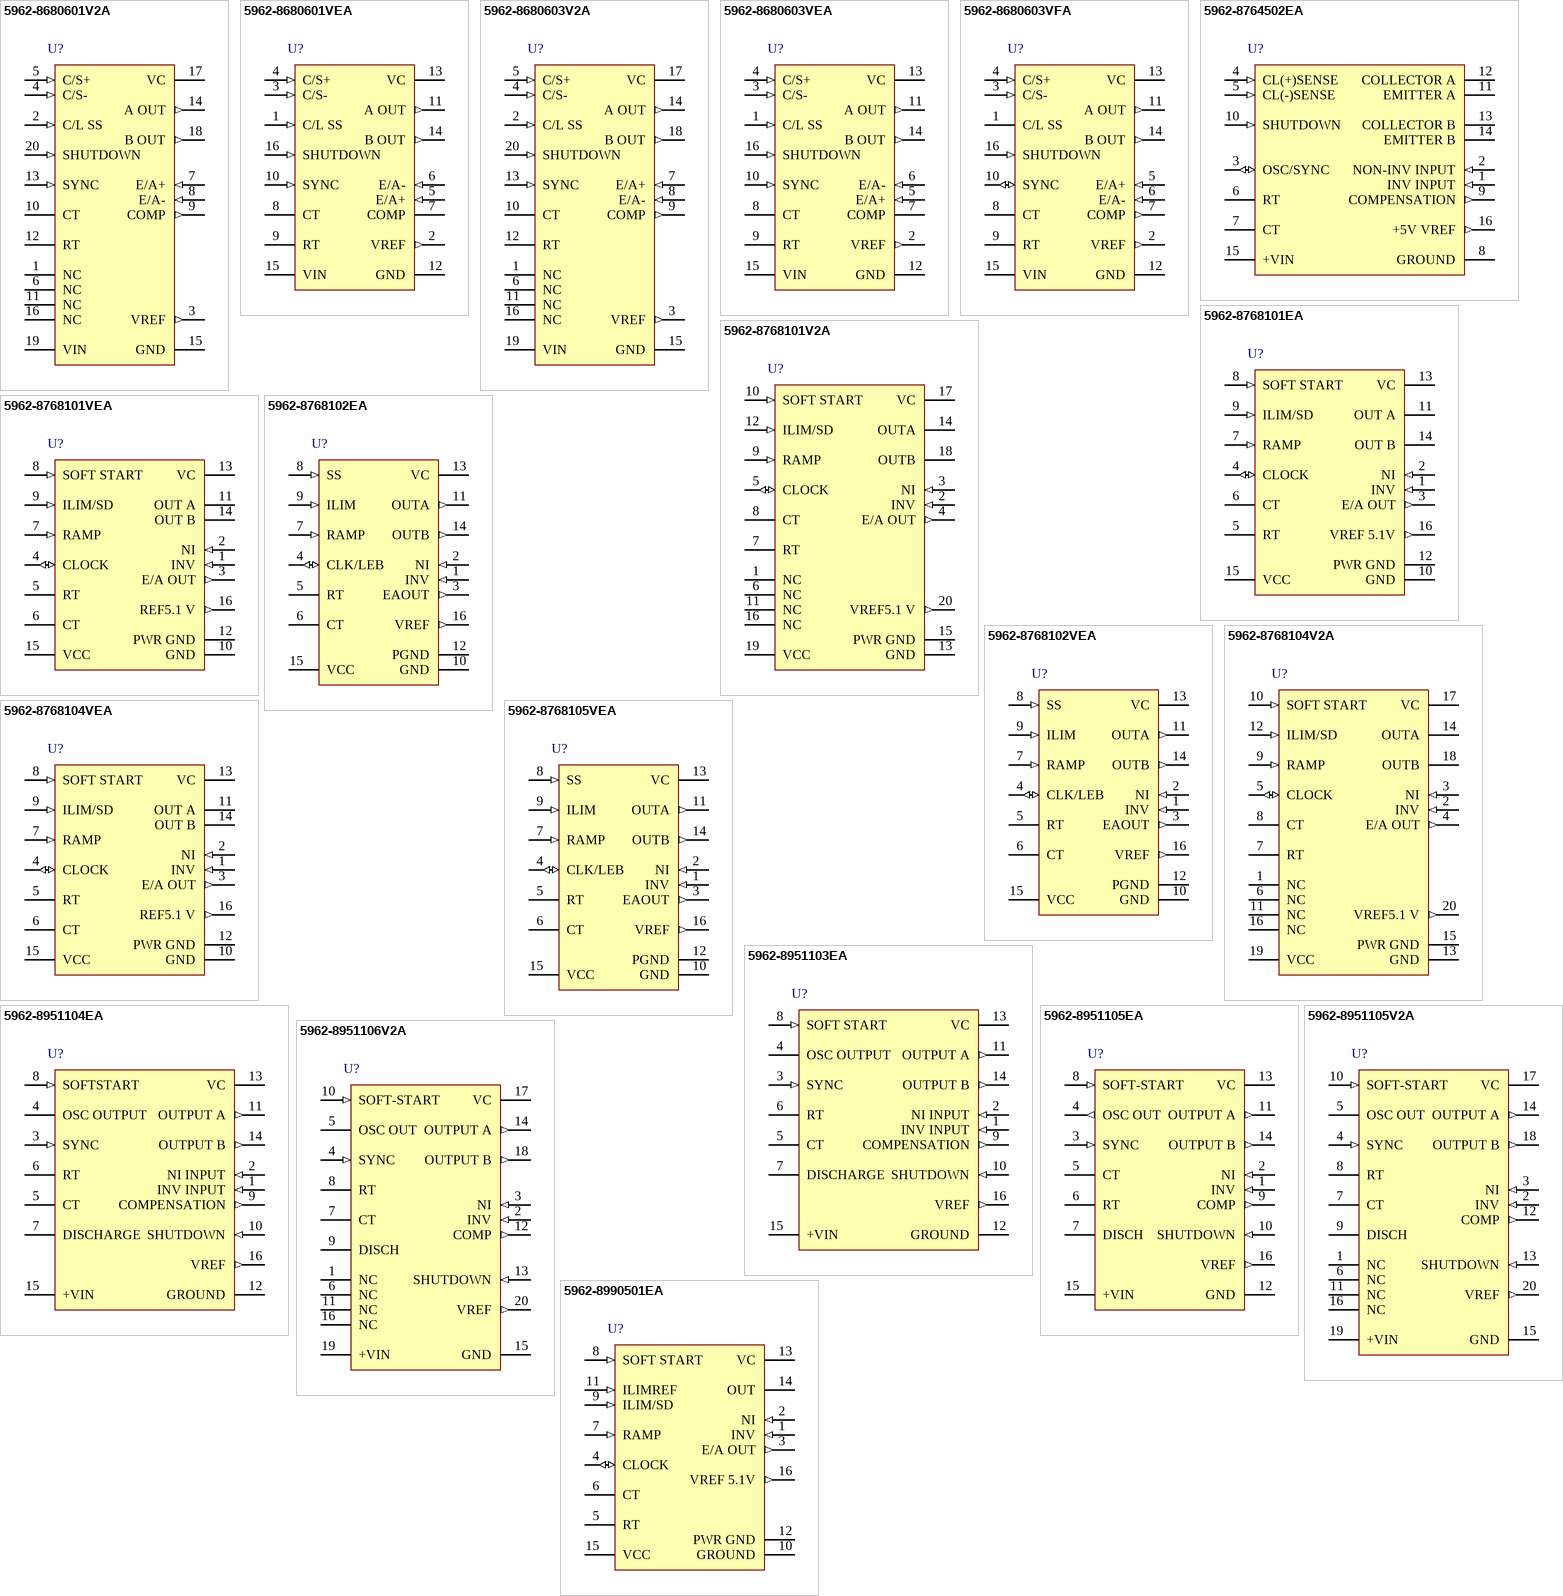
[diagram p1: symbols 5962-8680601V2A to 5962-8990501EA]

## 5962-8680601V2A
designator U?
Rad-Tolerant Class-V, Current-Mode PWM Controller with Current Control, 50 % Duty Cycle, -55 to +125 degC, 20-pin LCCC (FK); PartNumber: 5962-8680601V2A; Manufacturer: Texas Instruments; Duty Cycle(Max)(%): 50; Eco-Plan: TBD; Frequency(Max)(kHz): 450; Rating: Space; Regulated Outputs(#): 2; Topology: Boost, Flyback, Forward, Full-Bridge, Half-Bridge, Push-Pull; UVLO Thresholds On/Off(V): 7.7/6.95; DatasheetVersion: SLUS871B; PackageVersion: revD, Jan-2011; PackageReference: FK20; PackageDescription: 20-Pin Leadless Ceramic Chip Carrier, 1.27 mm Pitch; Control Method: Current; SubFamily: PWM Controller; Mounting Technology: Surface Mount; Code_JEDEC: MS-004; ComponentLink1Description: Datasheet; ComponentLink1URL: http://www.ti.com/general/docs/lit/getliterature.tsp?genericPartNumber=UC1846-SP&fileType=pdf
footprint FK20_N (Leadless Chip Carrier, 20-Leads, Body 8.9x8.9mm, Pitch 1.27mm, IPC Medium Density)
footprint FK20_L (Leadless Chip Carrier, 20-Leads, Body 8.9x8.9mm, Pitch 1.27mm, IPC High Density)
footprint FK20_M (Leadless Chip Carrier, 20-Leads, Body 8.9x8.9mm, Pitch 1.27mm, IPC Low Density)
pins: 1 NC, 2 C/L SS (in), 3 VREF (out), 4 C/S- (in), 5 C/S+ (in), 6 NC, 7 E/A+ (in), 8 E/A- (in), 9 COMP (out), 10 CT, 11 NC, 12 RT, 13 SYNC (in), 14 A OUT (out), 15 GND (power), 16 NC, 17 VC (power), 18 B OUT (out), 19 VIN (power), 20 SHUTDOWN (in)

## 5962-8680601VEA
designator U?
Rad-Tolerant Class-V, Current-Mode PWM Controller with Current Control, 50 % Duty Cycle, -55 to +125 degC, 16-pin CDIP (J); PartNumber: 5962-8680601VEA; Manufacturer: Texas Instruments; Duty Cycle(Max)(%): 50; Eco-Plan: TBD; Frequency(Max)(kHz): 450; Rating: Space; Regulated Outputs(#): 2; Topology: Boost, Flyback, Forward, Full-Bridge, Half-Bridge, Push-Pull; UVLO Thresholds On/Off(V): 7.7/6.95; DatasheetVersion: SLUS871B; PackageVersion: revF, Mar-2003; PackageReference: J16; PackageDescription: 16-Pin, Ceramic Dual In-Line Package, Row Spacing 7.62 mm, Pitch 2.54 mm; Control Method: Current; SubFamily: PWM Controller; Mounting Technology: Through Hole; ComponentLink1Description: Datasheet; ComponentLink1URL: http://www.ti.com/general/docs/lit/getliterature.tsp?genericPartNumber=UC1846-SP&fileType=pdf
footprint J16 (DIP, 16-Leads, Row Spacing 7.62mm, Pitch 2.54mm, Body 21.3x6.9mm)
pins: 1 C/L SS (in), 2 VREF (out), 3 C/S- (in), 4 C/S+ (in), 5 E/A+ (in), 6 E/A- (in), 7 COMP, 8 CT, 9 RT, 10 SYNC (in), 11 A OUT (out), 12 GND (power), 13 VC (power), 14 B OUT (out), 15 VIN (power), 16 SHUTDOWN (in)

## 5962-8680603V2A
designator U?
Rad-Tolerant Class-V, Current-Mode PWM Controller with Current Control, 50 % Duty Cycle, -55 to +125 degC, 20-pin LCCC (FK); PartNumber: 5962-8680603V2A; Manufacturer: Texas Instruments; Duty Cycle(Max)(%): 50; Eco-Plan: TBD; Frequency(Max)(kHz): 450; Rating: Space; Regulated Outputs(#): 2; Topology: Boost, Flyback, Forward, Full-Bridge, Half-Bridge, Push-Pull; UVLO Thresholds On/Off(V): 7.7/6.95; DatasheetVersion: SLUS871B; PackageVersion: revD, Jan-2011; PackageReference: FK20; PackageDescription: 20-Pin Leadless Ceramic Chip Carrier, 1.27 mm Pitch; Supplier 1: Mouser; Supplier Part Number 1: 595-5962-8680603V2A; Control Method: Current; SubFamily: PWM Controller; Mounting Technology: Surface Mount; Code_JEDEC: MS-004; ComponentLink1Description: Datasheet; ComponentLink1URL: http://www.ti.com/general/docs/lit/getliterature.tsp?genericPartNumber=UC1846-SP&fileType=pdf
footprint FK20_N (Leadless Chip Carrier, 20-Leads, Body 8.9x8.9mm, Pitch 1.27mm, IPC Medium Density)
footprint FK20_L (Leadless Chip Carrier, 20-Leads, Body 8.9x8.9mm, Pitch 1.27mm, IPC High Density)
footprint FK20_M (Leadless Chip Carrier, 20-Leads, Body 8.9x8.9mm, Pitch 1.27mm, IPC Low Density)
pins: 1 NC, 2 C/L SS (in), 3 VREF (out), 4 C/S- (in), 5 C/S+ (in), 6 NC, 7 E/A+ (in), 8 E/A- (in), 9 COMP (out), 10 CT, 11 NC, 12 RT, 13 SYNC (in), 14 A OUT (out), 15 GND (power), 16 NC, 17 VC (power), 18 B OUT (out), 19 VIN (power), 20 SHUTDOWN (in)

## 5962-8680603VEA
designator U?
Rad-Tolerant Class-V, Current-Mode PWM Controller with Current Control, 50 % Duty Cycle, -55 to +125 degC, 16-pin CDIP (J); PartNumber: 5962-8680603VEA; Manufacturer: Texas Instruments; Duty Cycle(Max)(%): 50; Eco-Plan: TBD; Frequency(Max)(kHz): 450; Rating: Space; Regulated Outputs(#): 2; Topology: Boost, Flyback, Forward, Full-Bridge, Half-Bridge, Push-Pull; UVLO Thresholds On/Off(V): 7.7/6.95; DatasheetVersion: SLUS871B; PackageVersion: revF, Mar-2003; PackageReference: J16; PackageDescription: 16-Pin, Ceramic Dual In-Line Package, Row Spacing 7.62 mm, Pitch 2.54 mm; Supplier 1: Digi-Key; Supplier Part Number 1: 5962-8680603VEA-ND; Supplier 2: Mouser; Supplier Part Number 2: 595-5962-8680603VEA; Control Method: Current; SubFamily: PWM Controller; Mounting Technology: Through Hole; ComponentLink1Description: Datasheet; ComponentLink1URL: http://www.ti.com/general/docs/lit/getliterature.tsp?genericPartNumber=UC1846-SP&fileType=pdf
footprint J16 (DIP, 16-Leads, Row Spacing 7.62mm, Pitch 2.54mm, Body 21.3x6.9mm)
pins: 1 C/L SS (in), 2 VREF (out), 3 C/S- (in), 4 C/S+ (in), 5 E/A+ (in), 6 E/A- (in), 7 COMP, 8 CT, 9 RT, 10 SYNC (in), 11 A OUT (out), 12 GND (power), 13 VC (power), 14 B OUT (out), 15 VIN (power), 16 SHUTDOWN (in)

## 5962-8680603VFA
designator U?
Rad-Tolerant Class-V, Current-Mode PWM Controller with Current Control, 50 % Duty Cycle, -55 to +125 degC, 16-pin CFP (W); PartNumber: 5962-8680603VFA; Manufacturer: Texas Instruments; Duty Cycle(Max)(%): 50; Eco-Plan: TBD; Frequency(Max)(kHz): 450; Rating: Space; Regulated Outputs(#): 2; Topology: Boost, Flyback, Forward, Full-Bridge, Half-Bridge, Push-Pull; UVLO Thresholds On/Off(V): 7.7/6.95; DatasheetVersion: SLUS871B; PackageVersion: revD, Jul-2003; PackageReference: W16; PackageDescription: 16-Lead Ceramic Dual Flatpack, Body 10.9 x 7.2 mm (LxW max), Pitch 1.27 mm; Supplier 1: Newark; Supplier Part Number 1: 74T6850; Supplier 2: Mouser; Supplier Part Number 2: 595-5962-8680603VFA; Control Method: Current; SubFamily: PWM Controller; Mounting Technology: Surface Mount; Code_JEDEC: MO-092-AC; ComponentLink1Description: Datasheet; ComponentLink1URL: http://www.ti.com/general/docs/lit/getliterature.tsp?genericPartNumber=UC1846-SP&fileType=pdf
footprint W16 (DFP, 16 Leads, Body 10.2x6.7mm, Pitch 1.27mm, Gullwing Leadform)
pins: 1 C/L SS, 2 VREF (out), 3 C/S- (in), 4 C/S+ (in), 5 E/A+ (in), 6 E/A- (in), 7 COMP (out), 8 CT, 9 RT, 10 SYNC (io), 11 A OUT (out), 12 GND (power), 13 VC (power), 14 B OUT (out), 15 VIN (power), 16 SHUTDOWN (in)

## 5962-8764502EA
designator U?
Advanced Regulating Pulse Width Modulator with Voltage Control, 50 % Duty Cycle, -55 to +125 degC, 16-pin CDIP (J); PartNumber: 5962-8764502EA; Manufacturer: Texas Instruments; Duty Cycle(Max)(%): 50; Eco-Plan: TBD; Frequency(Max)(kHz): 450; Rating: Military; Regulated Outputs(#): 2; SubFamily: PWM Controller; Topology: Boost, Flyback, Forward, Full-Bridge, Half-Bridge, Push-Pull; DatasheetVersion: SLUS181B; PackageVersion: revF, Mar-2003; PackageReference: J16; PackageDescription: 16-Pin, Ceramic Dual In-Line Package, Row Spacing 7.62 mm, Pitch 2.54 mm; Control Method: Voltage; UVLO Thresholds On/Off(V): 7.5/7; Mounting Technology: Through Hole; ComponentLink1Description: Datasheet; ComponentLink1URL: http://www.ti.com/general/docs/lit/getliterature.tsp?genericPartNumber=UC1524A&fileType=pdf
footprint J16 (DIP, 16-Leads, Row Spacing 7.62mm, Pitch 2.54mm, Body 21.3x6.9mm)
pins: 1 INV INPUT (in), 2 NON-INV INPUT (in), 3 OSC/SYNC (io), 4 CL(+)SENSE (in), 5 CL(-)SENSE (in), 6 RT, 7 CT, 8 GROUND (power), 9 COMPENSATION (out), 10 SHUTDOWN (in), 11 EMITTER A, 12 COLLECTOR A, 13 COLLECTOR B, 14 EMITTER B, 15 +VIN (power), 16 +5V VREF (out)

## 5962-8768101EA
designator U?
High Speed PWM Controller with Current Control, 50 % Duty Cycle, -55 to +125 degC, 16-pin CDIP (J); PartNumber: 5962-8768101EA; Manufacturer: Texas Instruments; Duty Cycle(Max)(%): 50; Eco-Plan: TBD; Frequency(Max)(kHz): 1000; Rating: Military; Regulated Outputs(#): 2; Topology: Boost, Flyback, Forward, Full-Bridge, Half-Bridge, Push-Pull; UVLO Thresholds On/Off(V): 9.2/8.4; DatasheetVersion: SLUS235A; PackageVersion: revF, Mar-2003; PackageReference: J16; PackageDescription: 16-Pin, Ceramic Dual In-Line Package, Row Spacing 7.62 mm, Pitch 2.54 mm; Control Method: Current; SubFamily: PWM Controller; Mounting Technology: Through Hole; ComponentLink1Description: Datasheet; ComponentLink1URL: http://www.ti.com/general/docs/lit/getliterature.tsp?genericPartNumber=UC1825&fileType=pdf
footprint J16 (DIP, 16-Leads, Row Spacing 7.62mm, Pitch 2.54mm, Body 21.3x6.9mm)
pins: 1 INV (in), 2 NI (in), 3 E/A OUT (out), 4 CLOCK (io), 5 RT, 6 CT, 7 RAMP (in), 8 SOFT START (in), 9 ILIM/SD (in), 10 GND (power), 11 OUT A (hiz), 12 PWR GND (power), 13 VC (power), 14 OUT B (hiz), 15 VCC (power), 16 VREF 5.1V (out)

## 5962-8768101V2A
designator U?
Rad-Tolerant Class V, High-Speed PWM Controller with Current Control, 50 % Duty Cycle, -55 to +125 degC, 20-pin LCCC (FK); PartNumber: 5962-8768101V2A; Manufacturer: Texas Instruments; Duty Cycle(Max)(%): 50; Eco-Plan: TBD; Frequency(Max)(kHz): 1000; Rating: Space; Regulated Outputs(#): 2; Topology: Boost, Flyback, Forward, Full-Bridge, Half-Bridge, Push-Pull; UVLO Thresholds On/Off(V): 9.2/8.4; DatasheetVersion: SLUS870A; PackageVersion: revD, Jan-2011; PackageReference: FK20; PackageDescription: 20-Pin Leadless Ceramic Chip Carrier, 1.27 mm Pitch; Control Method: Current; SubFamily: PWM Controller; Mounting Technology: Surface Mount; Code_JEDEC: MS-004; ComponentLink1Description: Datasheet; ComponentLink1URL: http://www.ti.com/general/docs/lit/getliterature.tsp?genericPartNumber=UC1825-SP&fileType=pdf
footprint FK20_N (Leadless Chip Carrier, 20-Leads, Body 8.9x8.9mm, Pitch 1.27mm, IPC Medium Density)
footprint FK20_L (Leadless Chip Carrier, 20-Leads, Body 8.9x8.9mm, Pitch 1.27mm, IPC High Density)
footprint FK20_M (Leadless Chip Carrier, 20-Leads, Body 8.9x8.9mm, Pitch 1.27mm, IPC Low Density)
pins: 1 NC "No connection", 2 INV (in) "Inverting input to the error amplifier", 3 NI (in) "Non-inverting input to the error amplifier", 4 E/A OUT (out) "Output of the error amplifier for compensation", 5 CLOCK (io) "Output of the internal oscillator", 6 NC "No connection", 7 RT "Timing resistor connection pin for oscillator frequency programming", 8 CT "Timing capacitor connection pin for oscillator frequency programming. The timing capacitor should be connected to the device ground using minimal trace length.", 9 RAMP (in) "Non-inverting input to the PWM comparator with 1.25-V internal input offset. In voltage mode operation this serves as the input voltage feed-forward function by using the CT ramp. In peak current mode operation, this serves (See Datasheet)", 10 SOFT START (in) "Soft-start input pin which also doubles as the maximum duty cycle clamp", 11 NC "No connection", 12 ILIM/SD (in) "Input to the current limit comparator and the shutdown comparator", 13 GND (power) "Analog ground return pin", 14 OUTA (hiz) "High-current totem pole output A of the on-chip drive stage", 15 PWR GND (power) "Ground return pin for the output driver stage", 16 NC "No connection", 17 VC (power) "Power supply pin for the output stage. This pin should be bypassed with a 0.1-uF monolithic ceramic low ESL capacitor with minimal trace lengths.", 18 OUTB (hiz) "High-current totem pole output B of the on-chip drive stage", 19 VCC (power) "Power supply pin for the device. This pin should be bypassed with a 0.1-uF monolithic ceramic low ESL capacitor with minimal trace lengths.", 20 VREF5.1 V (out) "5.1-V reference. For stability, the reference should be bypassed with a 0.1-uF monolithic ceramic low ESL capacitor and minimal trace length to the ground plane."

## 5962-8768101VEA
designator U?
Rad-Tolerant Class V, High-Speed PWM Controller with Current Control, 50 % Duty Cycle, -55 to +125 degC, 16-pin CDIP (J); PartNumber: 5962-8768101VEA; Manufacturer: Texas Instruments; Duty Cycle(Max)(%): 50; Eco-Plan: TBD; Frequency(Max)(kHz): 1000; Rating: Space; Regulated Outputs(#): 2; Topology: Boost, Flyback, Forward, Full-Bridge, Half-Bridge, Push-Pull; UVLO Thresholds On/Off(V): 9.2/8.4; DatasheetVersion: SLUS870A; PackageVersion: revF, Mar-2003; PackageReference: J16; PackageDescription: 16-Pin, Ceramic Dual In-Line Package, Row Spacing 7.62 mm, Pitch 2.54 mm; Control Method: Current; SubFamily: PWM Controller; Mounting Technology: Through Hole; ComponentLink1Description: Datasheet; ComponentLink1URL: http://www.ti.com/general/docs/lit/getliterature.tsp?genericPartNumber=UC1825-SP&fileType=pdf
footprint J16 (DIP, 16-Leads, Row Spacing 7.62mm, Pitch 2.54mm, Body 21.3x6.9mm)
pins: 1 INV (in) "Inverting input to the error amplifier.", 2 NI (in) "Non-inverting input to the error amplifier.", 3 E/A OUT (out) "Output of the error amplifier for compensation.", 4 CLOCK (io) "Output of the internal oscillator.", 5 RT "Timing resistor connection pin for oscillator frequency programming.", 6 CT "Timing capacitor connection pin for oscillator frequency programming. The timing capacitor  should be connected to the device ground using minimal trace length.", 7 RAMP (in) "Non-inverting input to the PWM comparator with 1.25-V internal input offset. In voltage  mode operation this serves as the input voltage feed-forward function by using the CT ramp. In peak current mode operation, this serves (See Datasheet)", 8 SOFT START (in) "Soft-start input pin which also doubles as the maximum duty cycle clamp.", 9 ILIM/SD (in) "Input to the current limit comparator and the shutdown comparator.", 10 GND (power) "Analog ground return pin.", 11 OUT A (hiz) "High-current totem pole output A of the on-chip drive stage.", 12 PWR GND (power) "Ground return pin for the output driver stage.", 13 VC (power) "Power supply pin for the output stage. This pin should be bypassed with a 0.1-uF  monolithic ceramic low ESL capacitor with minimal trace lengths.", 14 OUT B (hiz) "High-current totem pole output B of the on-chip drive stage.", 15 VCC (power) "Power supply pin for the device. This pin should be bypassed with a 0.1-uF monolithic  ceramic low ESL capacitor with minimal trace lengths.", 16 REF5.1 V (out) "5.1-V reference. For stability, the reference should be bypassed with a 0.1-uF monolithic ceramic low ESL capacitor and minimal trace length to the ground plane."

## 5962-8768102EA
designator U?
High-Speed PWM Controller with Current Control, 50 % Duty Cycle, -55 to +125 degC, 16-pin CDIP (J); PartNumber: 5962-8768102EA; Manufacturer: Texas Instruments; Duty Cycle(Max)(%): 50; Eco-Plan: TBD; Frequency(Max)(kHz): 1000; Rating: Military; Regulated Outputs(#): 2; Topology: Boost, Flyback, Forward, Full-Bridge, Half-Bridge, Push-Pull; UVLO Thresholds On/Off(V): 16/10; DatasheetVersion: SLUS334E; PackageVersion: revF, Mar-2003; PackageReference: J16; PackageDescription: 16-Pin, Ceramic Dual In-Line Package, Row Spacing 7.62 mm, Pitch 2.54 mm; Control Method: Current; SubFamily: PWM Controller; Mounting Technology: Through Hole; ComponentLink1Description: Datasheet; ComponentLink1URL: http://www.ti.com/general/docs/lit/getliterature.tsp?genericPartNumber=UC1825A&fileType=pdf
footprint J16 (DIP, 16-Leads, Row Spacing 7.62mm, Pitch 2.54mm, Body 21.3x6.9mm)
pins: 1 INV (in) "Inverting input to the error amplifier", 2 NI (in) "Non-inverting input to the error amplifier", 3 EAOUT (out) "Output of the error amplifier for compensation", 4 CLK/LEB (io) "Output of the internal oscillator", 5 RT "Timing resistor connection pin for oscillator frequency programming", 6 CT "Timing capacitor connection pin for oscillator frequency programming. The timing capacitor should be connected to the device ground using minimal trace length.", 7 RAMP (in) "Non-inverting input to the PWM comparator with 1.25-V internal input offset. In voltage mode operation, this serves as the input voltage feed-forward function by using the CT ramp. In peak current mode operation, this serves (See Datasheet)", 8 SS (in) "Soft-start input pin which also doubles as the maximum duty cycle clamp.", 9 ILIM (in) "Input to the current limit comparator", 10 GND (power) "Analog ground return pin", 11 OUTA (out) "High current totem pole output A of the on-chip drive stage.", 12 PGND (power) "Ground return pin for the output driver stage", 13 VC (power) "Power supply pin for the output stage. This pin should be bypassed with a 0.1-uF monolithic ceramic low ESL capacitor with minimal trace lengths.", 14 OUTB (out) "High current totem pole output B of the on-chip drive stage.", 15 VCC (power) "Power supply pin for the device. This pin should be bypassed with a 0.1-uF monolithic ceramic low ESL capacitor with minimal trace lengths", 16 VREF (out) "5.1-V reference. For stability, the reference should be bypassed with a 0.1-uF monolithic ceramic low ESL capacitor and minimal trace length to the ground plane."